# Altium schematic symbol library Module.SchLib: 32 symbols
Pins are listed as number, name and electrical type; pins without a type are passive.

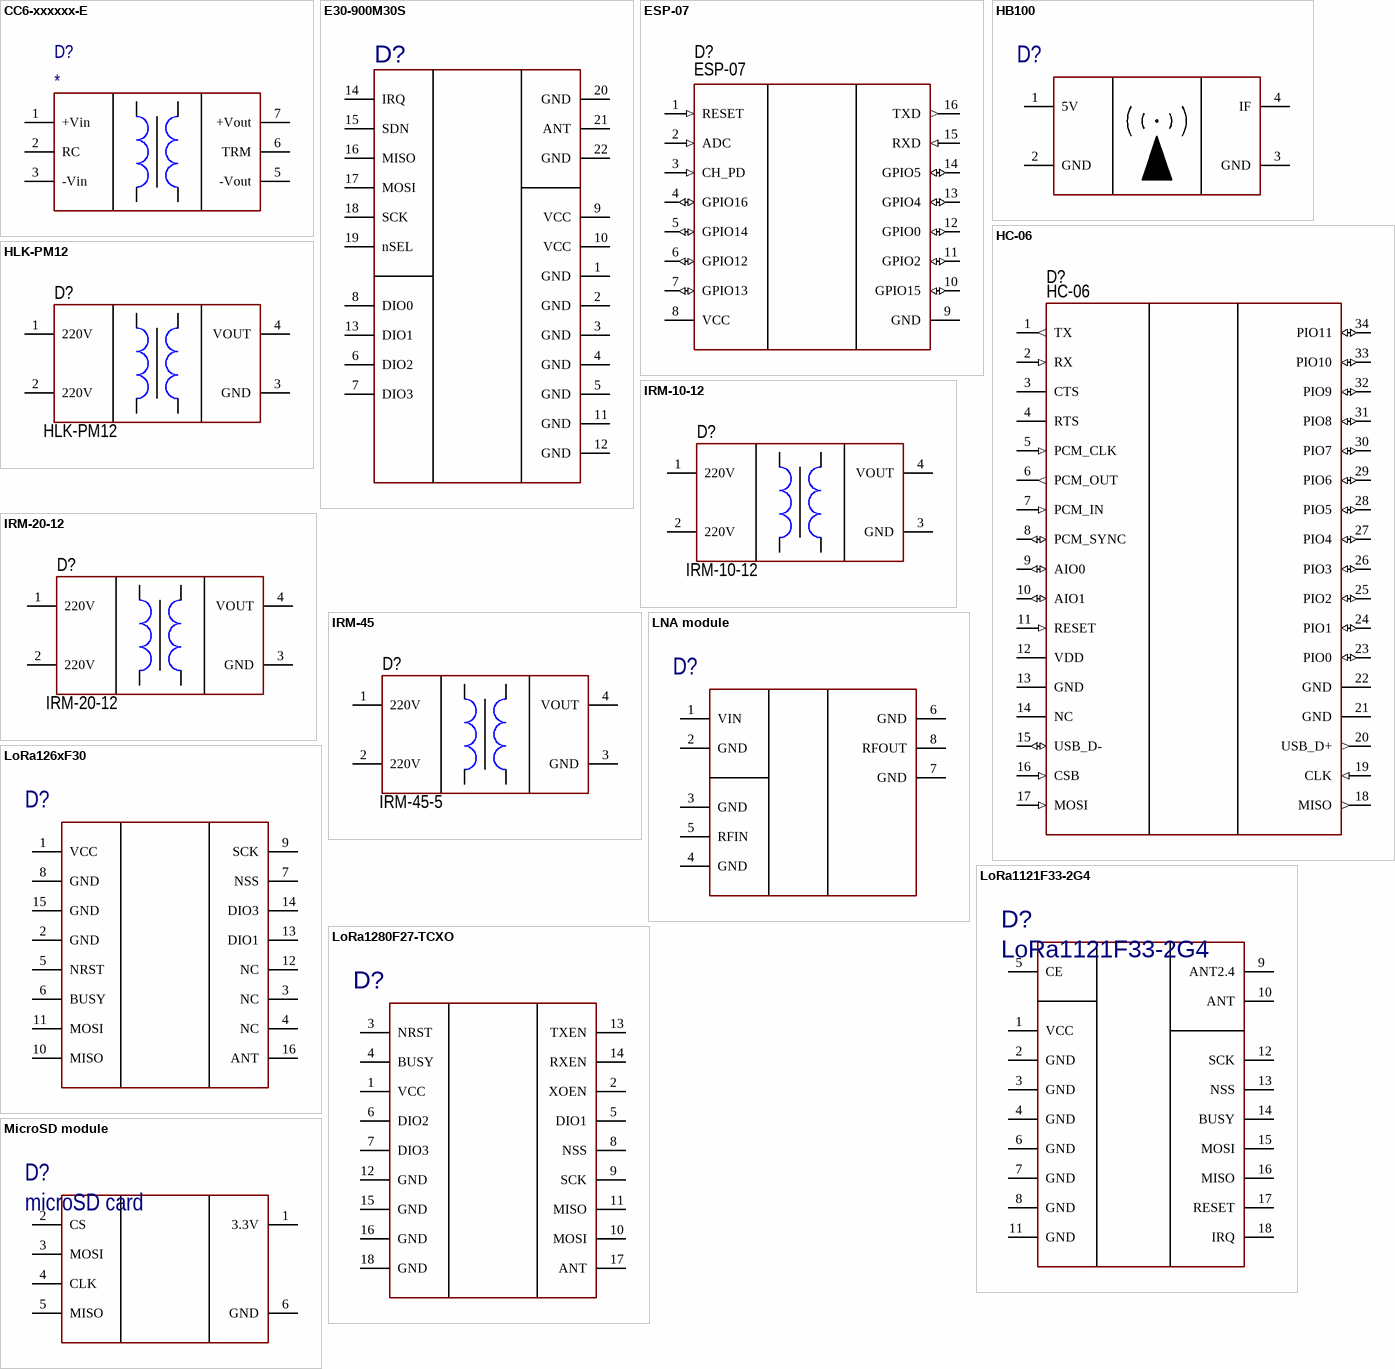
[diagram p0: symbols CC6-xxxxxx-E to MicroSD module]

## CC6-xxxxxx-E
designator D?
TDK-Lambda 6W isolated DC/DC; Manufacturer: TDK-Lambda; Model: *; Link: *
pins: 1 +Vin (power), 2 RC (power), 3 -Vin (power), 5 -Vout (power), 6 TRM (power), 7 +Vout (power)

## E30-900M30S
designator D?  (value not drawn)
Long range RF modul, based on SI4463, 1W Output; Manufacturer: EBYTE; ValueManufacturerPartNumber: E30-900M30S EBYTE; Model: E30-900M30S; Package: SMD; HelpURL: https://www.cdebyte.com/products/E30-900M30S/
footprint MOD: E30-900M30S (1W rf module)
pins: 1 GND, 2 GND, 3 GND, 4 GND, 5 GND, 6 DIO2, 7 DIO3, 8 DIO0, 9 VCC, 10 VCC, 11 GND, 12 GND, 13 DIO1, 14 IRQ, 15 SDN, 16 MISO, 17 MOSI, 18 SCK, 19 nSEL, 20 GND, 21 ANT, 22 GND

## ESP-07
designator D?
Wi-Fi; Manufacturer: China; Model: ESP-07; ComponentKind: Wi-Fi 2.4GHz; HelpURL: https://ru.aliexpress.com/wholesale?minPrice=&maxPrice=&isBigSale=n&isFreeShip=y&isNew=n&isFavorite=n&isMobileExclusive=n&isLocalReturn=n&shipFromCountry=&shipCompanies=&SearchText=ESP-07&CatId=0&initiative_id=SB_20170806224230&needQuery=y
footprint MOD: ESP-07
pins: 1 RESET (in), 2 ADC (in), 3 CH_PD (in), 4 GPIO16 (io), 5 GPIO14 (io), 6 GPIO12 (io), 7 GPIO13 (io), 8 VCC (power), 9 GND (power), 10 GPIO15 (io), 11 GPIO2 (io), 12 GPIO0 (io), 13 GPIO4 (io), 14 GPIO5 (io), 15 RXD (in), 16 TXD (out)

## HB100
designator D?  (value not drawn)
Manufacturer: AGILSENSE; Model: HB100; Package: 37x45x8mm; URL: https://arduino.ua/prod1432-datchik-dvijeniya-na-effekte-doplera
footprint HB100
pins: 1 5V (power), 2 GND (power), 3 GND (power), 4 IF (power)

## HC-06
designator D?
Bluetooth; Manufacturer: China; Model: HC-06; ComponentKind: Bluetooth 2.4GHz; HelpURL: https://ru.aliexpress.com/wholesale?minPrice=&maxPrice=&isBigSale=n&isFreeShip=y&isNew=n&isFavorite=n&isMobileExclusive=n&isLocalReturn=n&shipFromCountry=&shipCompanies=&SearchText=HC-06&CatId=0&initiative_id=SB_20170806222546&needQuery=y
footprint MOD: HC-05 (Bluetooth 2.0 module)
pins: 1 TX (out), 2 RX (in), 3 CTS, 4 RTS, 5 PCM_CLK (in), 6 PCM_OUT (out), 7 PCM_IN (in), 8 PCM_SYNC (io), 9 AIO0 (io), 10 AIO1 (io), 11 RESET (in), 12 VDD, 13 GND, 14 NC, 15 USB_D- (io), 16 CSB (in), 17 MOSI (in), 18 MISO (out), 19 CLK (in), 20 USB_D+ (out), 21 GND, 22 GND, 23 PIO0 (io), 24 PIO1 (io), 25 PIO2 (io), 26 PIO3 (io), 27 PIO4 (io), 28 PIO5 (io), 29 PIO6 (io), 30 PIO7 (io), 31 PIO8 (io), 32 PIO9 (io), 33 PIO10 (io), 34 PIO11 (io)

## HLK-PM12
designator D?
Isolator DC; Manufacturer: China; Model: HLK-PM12; ComponentKind: 3W; HelpURL: https://ru.aliexpress.com/item/AC-DC-220V-to-12V-Buck-Step-Down-Power-Supply-Module-Converter-Intelligent-Household-Switch-HLK/32655916720.html?spm=a2g0s.13010208.99999999.272.4e5e3c00NHPqSK
footprint MOD: HLK-PM01
pins: 1 220V (power), 2 220V (power), 3 GND (power), 4 VOUT (power)

## IRM-10-12
designator D?
Isolator DC; Manufacturer: MEAN WELL; Model: IRM-10-12; ComponentKind: 10W; HelpURL: https://ru.mouser.com/ProductDetail/MEAN-WELL/IRM-10-12?qs=%2fha2pyFaduinEh%2fsL8Dm3dC%2f6llusOicbYSZP6avck9m518FKrUQ9Q%3d%3d
footprint MOD: IRM-10-12
pins: 1 220V (power), 2 220V (power), 3 GND (power), 4 VOUT (power)

## IRM-20-12
designator D?
Isolator DC; Manufacturer: MEAN WELL; Model: IRM-20-12; ComponentKind: 20W; HelpURL: https://www.chipdip.ru/product1/8000000029
footprint MOD: IRM-20-12
pins: 1 220V (power), 2 220V (power), 3 GND (power), 4 VOUT (power)

## IRM-45
designator D?, comment IRM-45-5
Isolator DC; Manufacturer: MEAN WELL; Model: IRM-45-5; ComponentKind: 45W; HelpURL: https://ru.mouser.com/ProductDetail/MEAN-WELL/IRM-45-5?qs=sGAEpiMZZMuWiaalG5TUgItXvBdzAI9%252bvFTzxtRkSTqFceB9k4JzKQ%3d%3d
footprint MOD: IRM-45
pins: 1 220V (power), 2 220V (power), 3 GND (power), 4 VOUT (power)

## LNA module
designator D?  (value not drawn)
LNA 860 MHz based on SPF5043; ValueManufacturerPartNumber: Вхідний підсилювач ВП-860 Э540.191.00.000.0; Name: Вхідний підсилювач ВП-860; Model: Э540.191.00.000.0
footprint MOD: LNA860 module
pins: 1 VIN, 2 GND, 3 GND, 4 GND, 5 RFIN, 6 GND, 7 GND, 8 RFOUT

## LoRa126xF30
designator D?, comment LoRa1262F30-315  (value not drawn)
2W TCXO High Power SX1262 LoRa Module LoRa1262F30 With Shielding Cover; Manufacturer: G-NiceRF; ValueManufacturerPartNumber: LoRa1262F30-315 G-NiceRF; Model: LoRa1262F30-315; Package: SMD; HelpURL: https://www.nicerf.com/item/sx1262-lora-module-lora1262f30
pins: 1 VCC, 2 GND, 3 NC, 4 NC, 5 NRST, 6 BUSY, 7 NSS, 8 GND, 9 SCK, 10 MISO, 11 MOSI, 12 NC, 13 DIO1, 14 DIO3, 15 GND, 16 ANT

## LoRa1121F33-2G4
designator D?
2W High-Power Wireless Communication Module; Manufacturer: NICE-RF; ValueManufacturerPartNumber: LoRa1121F33-2G4 NICE-RF; Model: LoRa1121F33-2G4; HelpURL: https://www.nicerf.com/lora-module/lora-1121f33-2g4.html
pins: 1 VCC, 2 GND, 3 GND, 4 GND, 5 CE, 6 GND, 7 GND, 8 GND, 9 ANT2.4, 10 ANT, 11 GND, 12 SCK, 13 NSS, 14 BUSY, 15 MOSI, 16 MISO, 17 RESET, 18 IRQ

## LoRa1280F27-TCXO
designator D?  (value not drawn)
Manufacturer: G-NiceRF; ValueManufacturerPartNumber: LoRa1280F27-TCXO G-NiceRF; Model: LoRa1280F27-TCXO; HelpURL: https://www.nicerf.com/lora-module/2-4ghz-rf-module-lora1280f27-tcxo.html
pins: 1 VCC, 2 XOEN, 3 NRST, 4 BUSY, 5 DIO1, 6 DIO2, 7 DIO3, 8 NSS, 9 SCK, 10 MOSI, 11 MISO, 12 GND, 13 TXEN, 14 RXEN, 15 GND, 16 GND, 17 ANT, 18 GND

## MicroSD module
designator D?, comment microSD card
Model: microSD card; Parameter 1: *
footprint MOD: microSD card module
pins: 1 3.3V, 2 CS, 3 MOSI, 4 CLK, 5 MISO, 6 GND

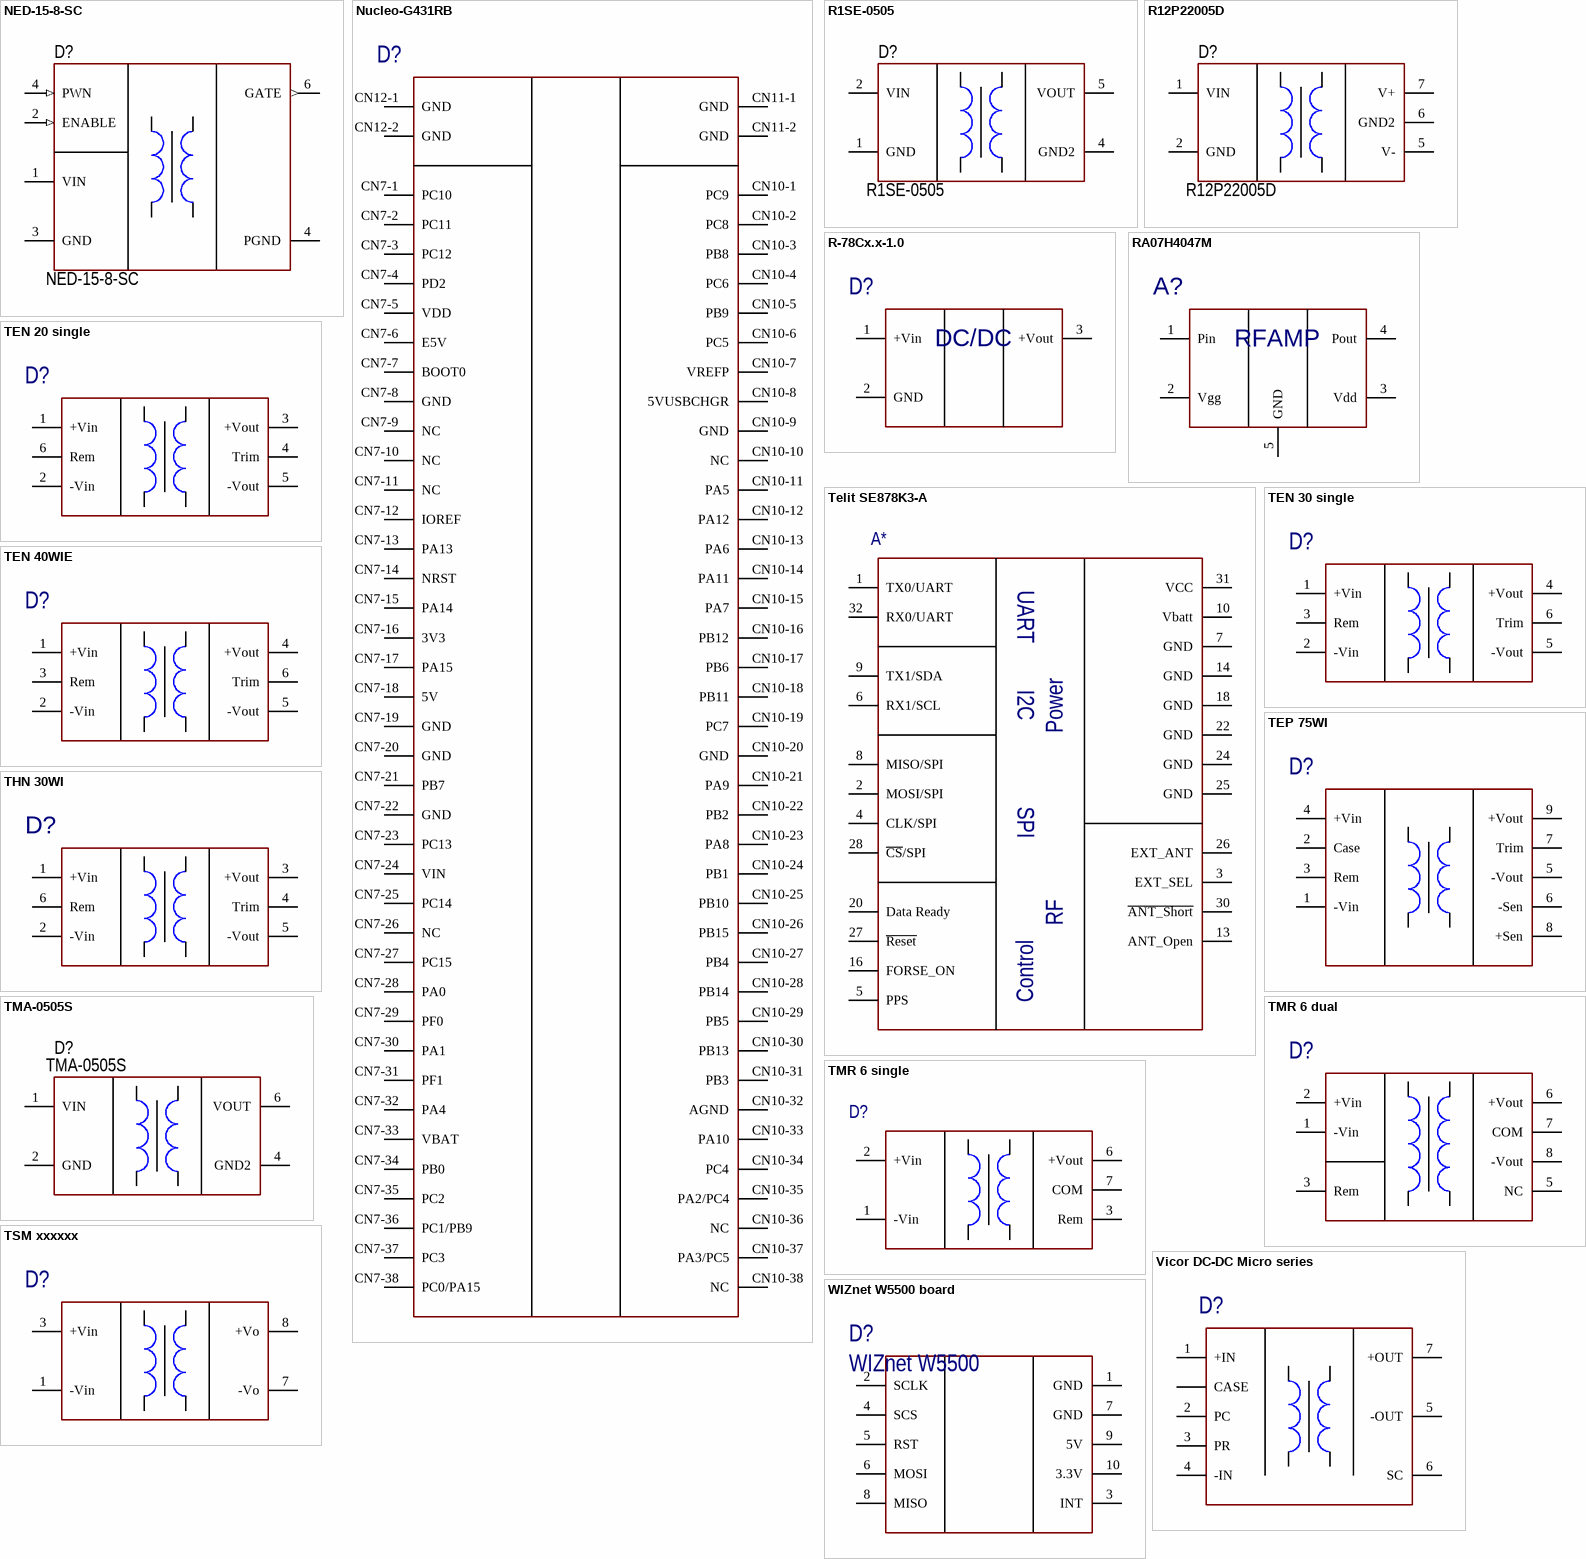
[diagram p1: symbols NED-15-8-SC to WIZnet W5500 board]

## NED-15-8-SC
designator D?
Isolator DC; Manufacturer: Traco Power; Model: NED-15-8-SC; ComponentKind: 1W; HelpURL: https://www.chipdip.ru/product/tma0505s
footprint MOD: NED-15-8-SC
pins: 1 VIN (power), 2 ENABLE (in), 3 GND (power), 4 PGND (power), 4 PWN (in), 6 GATE (out)

## Nucleo-G431RB
designator D?, comment NUCLEO-G431RB  (value not drawn)
Development board; Manufacturer: ST MICROELECTRONICS; ValueManufacturerPartNumber: NUCLEO-G431RB ST MICROELECTRONICS; Model: NUCLEO-G431RB; HelpURL: https://www.st.com/en/evaluation-tools/nucleo-g431rb.html#overview
footprint MOD: NUCLEO-G431RB
pins: CN7-1 PC10, CN7-2 PC11, CN7-3 PC12, CN7-4 PD2, CN7-5 VDD, CN7-6 E5V, CN7-7 BOOT0, CN7-8 GND, CN7-9 NC, CN7-10 NC, CN7-11 NC, CN7-12 IOREF, CN7-13 PA13, CN7-14 NRST, CN7-15 PA14, CN7-16 3V3, CN7-17 PA15, CN7-18 5V, CN7-19 GND, CN7-20 GND, CN7-21 PB7, CN7-22 GND, CN7-23 PC13, CN7-24 VIN, CN7-25 PC14, CN7-26 NC, CN7-27 PC15, CN7-28 PA0, CN7-29 PF0, CN7-30 PA1, CN7-31 PF1, CN7-32 PA4, CN7-33 VBAT, CN7-34 PB0, CN7-35 PC2, CN7-36 PC1/PB9, CN7-37 PC3, CN7-38 PC0/PA15, CN10-1 PC9, CN10-2 PC8, CN10-3 PB8, CN10-4 PC6, CN10-5 PB9, CN10-6 PC5, CN10-7 VREFP, CN10-8 5VUSBCHGR, CN10-9 GND, CN10-10 NC, CN10-11 PA5, CN10-12 PA12, CN10-13 PA6, CN10-14 PA11, CN10-15 PA7, CN10-16 PB12, CN10-17 PB6, CN10-18 PB11, CN10-19 PC7, CN10-20 GND, CN10-21 PA9, CN10-22 PB2, CN10-23 PA8, CN10-24 PB1, CN10-25 PB10, CN10-26 PB15, CN10-27 PB4, CN10-28 PB14, CN10-29 PB5, CN10-30 PB13, CN10-31 PB3, CN10-32 AGND, CN10-33 PA10, CN10-34 PC4, CN10-35 PA2/PC4, CN10-36 NC, CN10-37 PA3/PC5, CN10-38 NC, CN11-1 GND, CN11-2 GND, CN12-1 GND, CN12-2 GND

## R1SE-0505
designator D?
Isolator DC; Manufacturer: RECOM Power; Model: R1SE-0505; ComponentKind: 1W; HelpURL: https://ru.mouser.com/ProductDetail/RECOM-Power/R1SE-0505-R?qs=%2fha2pyFaduhEzWeyu9RcrtYl%2fPhjLX%2fFHVUmin5SzckWK4wUC7NEgw%3d%3d
footprint MOD: R1SE
pins: 1 GND (power), 2 VIN (power), 4 GND2 (power), 5 VOUT (power)

## R12P22005D
designator D?
SiC dc/dc isolator; Manufacturer: Recom Power; Model: R12P22005D; ComponentKind: 2W; HelpURL: https://www.digikey.com/product-detail/en/recom-power/R12P22005D/945-3056-ND/5881287
footprint MOD: R12P22005D
pins: 1 VIN (power), 2 GND (power), 5 V- (power), 6 GND2 (power), 7 V+ (power)

## R-78Cx.x-1.0
designator D?, comment R-78C5.0-1.0  (value not drawn)
Linear Regulator Replacement DC DC Converter 1 Output 5V - - 1A 8V - 42V Input; Manufacturer: RECOM; ValueManufacturerPartNumber: R-78C5.0-1.0 RECOM; Model: R-78C5.0-1.0; HelpURL: https://www.digikey.com/en/products/detail/recom-power/R-78C5-0-1-0/2652148; Package: SIP-3
pins: 1 +Vin (power), 2 GND (power), 3 +Vout (power)
text: DC/DC

## RA07H4047M
designator A?, comment RA07H4470M  (value not drawn)
Silicon RF Power Module; Manufacturer: MITSUBISHI; ValueManufacturerPartNumber: RA07H4470M MITSUBISHI; Model: RA07H4470M; Package: H46S; HelpURL: https://www.mitsubishielectric.com/semiconductors/hf/products/datasheet/ra07h4047m.pdf
pins: 1 Pin (power), 2 Vgg (power), 3 Vdd (power), 4 Pout (power), 5 GND (power)
text: RFAMP

## Telit SE878K3-A
designator A*, comment SE878K3-A  (value not drawn)
GPS/GLONASS GNSS module; Manufacturer: TELIT; HelpURL: https://www.telit.com/m2m-iot-products/positioning-timing-modules/smart-antenna-gnss-se878k3-a/; Model: SE878K3-A; ComponentKind: GPS/GLONASS/BeiDou/Galileo
footprint MOD: SE787K3-A (LCC, 32-Pins, Body 18,00x18,00mmx6,35mm, Pitch 1,60mm, IPC High Density)
pins: 1 TX0/UART, 2 MOSI/SPI, 3 EXT_SEL, 4 CLK/SPI (power), 5 PPS, 6 RX1/SCL (power), 7 GND (power), 8 MISO/SPI, 9 TX1/SDA, 10 Vbatt (power), 13 ANT_Open, 14 GND (power), 16 FORSE_ON, 18 GND (power), 20 Data Ready (power), 22 GND (power), 24 GND (power), 25 GND (power), 26 EXT_ANT, 27 ~{Reset}, 28 ~{CS}/SPI, 30 ~{ANT_Short}, 31 VCC (power), 32 RX0/UART (power)
text: UART; I2C; Power; SPI; RF; Control

## TEN 20 single
designator D?, comment TEN 20-2412WIN  (value not drawn)
Isolated Module DC DC Converter 1 Output 12V 1.67A 9V - 36V Input; Manufacturer: TRACO; ValueManufacturerPartNumber: TEN 20-2412WIN TRACO; Model: TEN 20-2412WIN; HelpURL: https://www.tracopower.com/sites/default/files/products/datasheets/ten20win_datasheet.pdf
pins: 1 +Vin (power), 2 -Vin (power), 3 +Vout (power), 4 Trim, 5 -Vout (power), 6 Rem (power)

## TEN 30 single
designator D?, comment TEN 30-2410  (value not drawn)
Isolated Module DC DC Converter 1 Output 3.3V 8A 18V - 36V Input; Manufacturer: TRACO; ValueManufacturerPartNumber: TEN 30-2410 TRACO; Model: TEN 30-2410; HelpURL: https://www.tracopower.com/sites/default/files/products/datasheets/ten30_datasheet.pdf
pins: 1 +Vin (power), 2 -Vin (power), 3 Rem (power), 4 +Vout (power), 5 -Vout (power), 6 Trim

## TEN 40WIE
designator D?, comment TEN 40-2410WIE  (value not drawn)
Isolated Module DC DC Converter 9...36V Input 1 Output 40W; Manufacturer: TRACO; ValueManufacturerPartNumber: TEN 40-2410WIE TRACO; Model: TEN 40-2410WIE; HelpURL: https://www.tracopower.com/int/model/ten-40-2410wie; Package: 2" x 1"
footprint MOD: TEN 40WIE (1"x'2" DC/DC)
pins: 1 +Vin (power), 2 -Vin (power), 3 Rem (power), 4 +Vout (power), 5 -Vout (power), 6 Trim

## TEP 75WI
designator D?, comment TEP 75-2413WI  (value not drawn)
Isolated Module DC DC Converter 9...36V Input 1 Output 75W; Manufacturer: TRARO; ValueManufacturerPartNumber: TEP 75-2413WI TRARO; Model: TEP 75-2413WI; Package: Half-Brick; HelpURL: https://www.tracopower.com/sites/default/files/products/datasheets/tep75wi_datasheet.pdf
pins: 1 -Vin (power), 2 Case (power), 3 Rem (power), 4 +Vin (power), 5 -Vout (power), 6 -Sen, 7 Trim, 8 +Sen, 9 +Vout (power)

## THN 30WI
designator D?, comment THN 30-2410WI  (value not drawn)
Isolated Module DC DC Converter 9...36V Input 1 Output 40W; Manufacturer: TRACO; ValueManufacturerPartNumber: THN 30-2410WI TRACO; Model: THN 30-2410WI; HelpURL: https://www.tracopower.com/int/series/thn-30wi; Package: 1" x 1"
footprint MOD: THN 30WI (1"x1" DC/DC)
pins: 1 +Vin (power), 2 -Vin (power), 3 +Vout (power), 4 Trim, 5 -Vout (power), 6 Rem (power)

## TMA-0505S
designator D?
Isolator DC; Manufacturer: Traco Power; Model: TMA-0505S; ComponentKind: 1W; HelpURL: https://www.chipdip.ru/product/tma0505s
footprint MOD: TMA-0505S
pins: 1 VIN (power), 2 GND (power), 4 GND2 (power), 6 VOUT (power)

## TMR 6 dual
designator D?, comment TMR 6-2421WI  (value not drawn)
Isolated DC-DC; Manufacturer: TRACO; ValueManufacturerPartNumber: TMR 6-2421WI TRACO; Model: TMR 6-2421WI; HelpURL: https://www.tracopower.com/products/tmr6wi.pdf; ComponentKind: 6W
pins: 1 -Vin (power), 2 +Vin (power), 3 Rem (power), 5 NC (power), 6 +Vout (power), 7 COM (power), 8 -Vout (power)

## TMR 6 single
designator D?, comment TMR6-2412WI  (value not drawn)
Isolated  6W DC-DC; ValueManufacturerPartNumber: TMR6-2412WI TRACO; Manufacturer: TRACO; Model: TMR6-2412WI; HelpURL: https://www.tracopower.com/products/tmr6wi.pdf; Package: SIP-8
pins: 1 -Vin (power), 2 +Vin (power), 3 Rem (power), 5 NC (power) hidden, 6 +Vout (power), 7 COM (power), 8 NC (power) hidden

## TSM xxxxxx
designator D?, comment TSM 0505S  (value not drawn)
Manufacturer: TRACO; ValueManufacturerPartNumber: TSM 0505S TRACO; Model: TSM 0505S; Package: SOIC-14; HelpURL: https://www.tracopower.com/int/series/tsm
pins: 1 -Vin (power), 3 +Vin (power), 7 -Vo (power), 8 +Vo (power)

## Vicor DC-DC Micro series
designator D?, comment Конвертер V24C15T150BL  (value not drawn)
Manufacturer: VICOR; ValueManufacturerPartNumber: Конвертер V24C15T150BL VICOR; Model: Конвертер V24C15T150BL; Package: 1/4 brick; Help URL: https://eu.mouser.com/ProductDetail/Vicor/V24C12T150BL?qs=pdM4geFiyZSgRXS%252BX2YfrQ%3D%3D
pins: 1 +IN, 2 PC, 3 PR, 4 -IN, 5 -OUT, 6 SC, 7 +OUT, 8 CASE

## WIZnet W5500 board
designator D?, comment WIZnet W5500
Development board for idiots; ValueManufacturerPartNumber: WIZnet W5500 *; Model: WIZnet W5500; Manufacturer: *; HelpURL: https://www.mini-tech.com.ua/w5500-ethernet-modul
footprint MOD: W5500
pins: 1 GND, 2 SCLK, 3 INT, 4 SCS, 5 RST, 6 MOSI, 7 GND, 8 MISO, 9 5V, 10 3.3V